# Altium schematic symbol library Schlib-DC-LINK.SchLib: 11 symbols
Pins are listed as number, name and electrical type; pins without a type are passive.

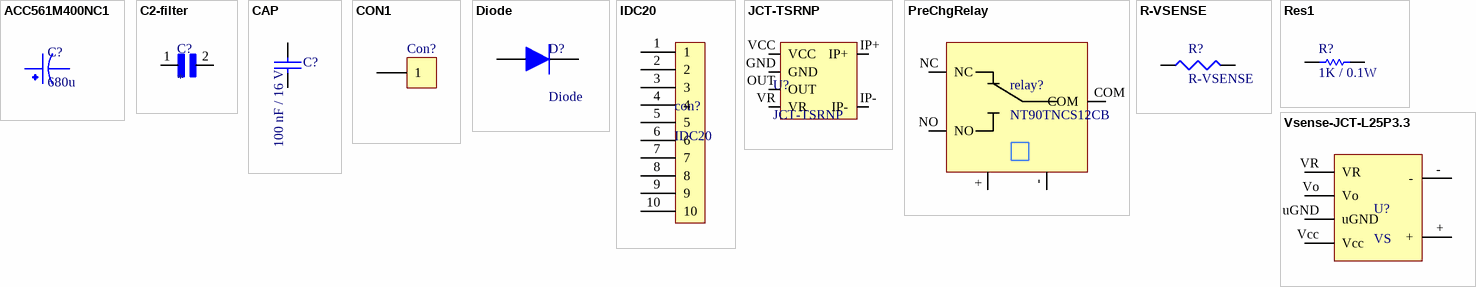
[diagram p0: symbols ACC561M400NC1 to Vsense-JCT-L25P3.3]

## ACC561M400NC1
designator C?, comment 680u
CAP ALUM 680UF 20% 400V RADIAL; Manufacturer: Nichicon; Manufacturer Part Number: UVR1H3R3MDD; Dielectric Material: Aluminium; Capacitance: 3.3uF; Ripple Current: 35mA; Voltage Rating: 50V; Life (Hours): 2000Hour; Dissipation Factor: 0.12%; Leakage Current: 4.95uA; Lead Diameter: 0.5mm; Supplier 1: Mouser; Supplier Part Number 1: 647-UVR1H3R3MDD; Stock 1: 868; Pricing 1: 1=0.31, 10=0.208, 50=0.208, 100=0.108, 1000=0.108, 10000=0.108 (USD); Mount: Through Hole,PCB; Case/Package: Radial; Number of Pins: 2; Min Operating Temperature: -40°C; Max Operating Temperature: 85°C; Tolerance: 20%; Packaging: Bulk; Package Quantity: 200; Termination: Radial; Voltage Rating (DC): 50V; Series: VR; Voltage: 50V; Construction: RADIAL; Diameter: 5mm; Length: 11mm; Height: 11mm; Lead Pitch: 2mm; Height - Seated (Max): 0.433inch; Radiation Hardening: No; RoHS Compliant: Yes; Lead Free: Lead Free; ComponentLink1URL: http://nichicon-us.com/english/products/pdfs/e-uvr.pdf?src-supplier=Digi-Key; ComponentLink1Description: http://nichicon-us.com/english/products/pdfs/e-uvr.pdf?src-supplier=Digi-Key; ComponentLink2URL: http://www.alliedelec.com/m/d/2079ee50b23aa24d1fe62a3e164465c7.pdf?src-supplier=Allied+Electronics; ComponentLink2Description: http://www.alliedelec.com/m/d/2079ee50b23aa24d1fe62a3e164465c7.pdf?src-supplier=Allied+Electronics; ComponentLink3URL: http://www.nichicon.co.jp/english/products/pdfs/e-vr.pdf?src-supplier=Avnet; ComponentLink3Description: http://www.nichicon.co.jp/english/products/pdfs/e-vr.pdf?src-supplier=Avnet; ComponentLink4URL: http://products.nichicon.co.jp/en/pdf/XJA043/e-vr.pdf?src-supplier=Future+Electronics; ComponentLink4Description: http://products.nichicon.co.jp/en/pdf/XJA043/e-vr.pdf?src-supplier=Future+Electronics; ComponentLink5URL: http://www.nichicon.co.jp/english/products/pdfs/e-vr.pdf?src-supplier=Avnet+Europe; ComponentLink5Description: http://www.nichicon.co.jp/english/products/pdfs/e-vr.pdf?src-supplier=Avnet+Europe
footprint DC-CAPACITOR
pins: 1, 2

## C2-filter
designator C?
footprint CX2
pins: 1, 2

## CAP
designator C?, comment 100 nF / 16 V
Capacitors; SMD/TH: SMD; DPM/VM/AM: DPM, VM, AM
footprint C200
pins: 1, 2

## CON1
designator Con?
Connector; SMD/TH: TH
footprint WIRE6MM
pins: 1

## Diode
designator D?
SMD/TH: SMD
footprint P1-10
pins: A, K

## IDC20
designator con?
footprint IDC20
pins: 1, 2, 3, 4, 5, 6, 7, 8, 9, 10

## JCT-TSRNP
designator U?
footprint JCT-TSRNP
pins: GND, IP+, IP-, OUT, VCC, VR

## PreChgRelay
designator relay?, comment NT90TNCS12CB
NT90THLCE12CB
footprint NT90TNCS12CB
pins: +, -, COM, NC, NO

## R-VSENSE
designator R?
footprint R-VSENSE
pins: 1, 2

## Res1
designator R?, comment 1K / 0.1W
Resistor; SMD/TH: SMD
footprint R600
pins: 1, 2

## Vsense-JCT-L25P3.3
designator U?, comment VS
JCT-L25P3.3-voltage sensor
footprint VSENSE
pins: +, -, uGND, Vcc, Vo, VR